# Altium integrated library Amphenol RF Coaxial MCX.IntLib: 3 symbols
Pins are listed as number, name and electrical type; pins without a type are passive.

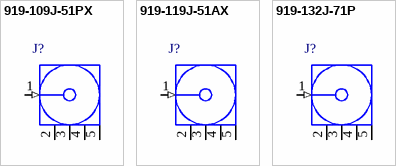
[diagram p0: symbols 919-109J-51PX to 919-132J-71P]

## 919-109J-51PX
designator J?
MCX RF Coaxial PCB Connector, Thru-Hole, Vertical Mount Socket, Blunt Post Terminal, 50 Ohm Impedance; PCB_Layout: Complies with manufacturer's recommendation.; DrillSize: Corresponds to nominal value.; Published: 15-Jul-2004; DatasheetDocument: 30-May-2003; PackageDocument: 04-Jul-1999; PackageReference: 919-109J; Publisher: Altium Limited; ComponentLink1Description: Manufacturer Link; ComponentLink1URL: http://www.amphenolrf.com/; ComponentLink2Description: Datasheet; ComponentLink2URL: http://www.amphenolrf.com/pdf/21.pdf
footprint 919-109J (Connector; RF Coaxial, MCX, Thru-Hole; 5 Position; Vertical)
pins: 1 Signal (in) "Signal Pin", 2 GND (power), 3 GND (power), 4 GND (power), 5 GND (power)

## 919-119J-51AX
designator J?
MCX RF Coaxial PCB Connector, Thru-Hole, Right-Angle Mount Socket, Blunt Post Terminal, 50 Ohm Impedance; PCB_Layout: Complies with manufacturer's recommendation.; DrillSize: Corresponds to nominal value.; Published: 15-Jul-2004; DatasheetDocument: 30-May-2003; PackageDocument: 04-Jul-1999; PackageReference: 919-119J; Publisher: Altium Limited; ComponentLink1Description: Manufacturer Link; ComponentLink1URL: http://www.amphenolrf.com/; ComponentLink2Description: Datasheet; ComponentLink2URL: http://www.amphenolrf.com/pdf/21.pdf
footprint 919-119J (Connector; RF Coaxial, MCX, Thru-Hole; 5 Position; Right Angle)
pins: 1 Signal (in) "Signal Pin", 2 GND (power), 3 GND (power), 4 GND (power), 5 GND (power)

## 919-132J-71P
designator J?
MCX RF Coaxial PCB Connector, SM, Vertical Mount Socket, 75 Ohm Impedance; PackageDocument: Rev. B, 21-Feb-2001; PCB_Layout: Complies with manufacturer's recommendation.; DrillSize: Corresponds to nominal value.; Published: 15-Jul-2004; DatasheetDocument: 30-May-2003; PackageReference: 919-132J; Publisher: Altium Limited; ComponentLink1Description: Manufacturer Link; ComponentLink1URL: http://www.amphenolrf.com/; ComponentLink2Description: Datasheet; ComponentLink2URL: http://www.amphenolrf.com/pdf/23.pdf
footprint 919-132J (Connector; RF Coaxial, MCX, SM; 5 Position; Vertical)
pins: 1 Signal (in) "Signal Pin", 2 GND (power), 3 GND (power), 4 GND (power), 5 GND (power)